# Altium schematic symbol library SCH - MCU - ATSAM - MICROCHIP ATSAML11E14A-UU WLCSP32.SchLib: 1 symbol
Pins are listed as number, name and electrical type; pins without a type are passive.

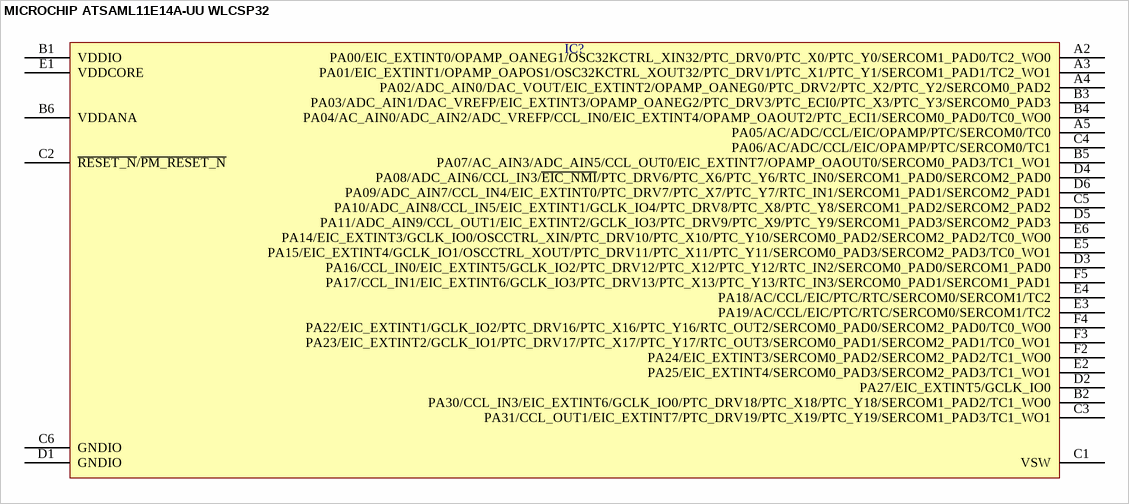
[diagram p0: symbol MICROCHIP ATSAML11E14A-UU WLCSP32]

## MICROCHIP ATSAML11E14A-UU WLCSP32
designator IC?  (value not drawn)
pins: A2 PA00/EIC_EXTINT0/OPAMP_OANEG1/OSC32KCTRL_XIN32/PTC_DRV0/PTC_X0/PTC_Y0/SERCOM1_PAD0/TC2_WO0, A3 PA01/EIC_EXTINT1/OPAMP_OAPOS1/OSC32KCTRL_XOUT32/PTC_DRV1/PTC_X1/PTC_Y1/SERCOM1_PAD1/TC2_WO1, A4 PA02/ADC_AIN0/DAC_VOUT/EIC_EXTINT2/OPAMP_OANEG0/PTC_DRV2/PTC_X2/PTC_Y2/SERCOM0_PAD2, A5 PA05/AC/ADC/CCL/EIC/OPAMP/PTC/SERCOM0/TC0, B1 VDDIO, B2 PA30/CCL_IN3/EIC_EXTINT6/GCLK_IO0/PTC_DRV18/PTC_X18/PTC_Y18/SERCOM1_PAD2/TC1_WO0, B3 PA03/ADC_AIN1/DAC_VREFP/EIC_EXTINT3/OPAMP_OANEG2/PTC_DRV3/PTC_ECI0/PTC_X3/PTC_Y3/SERCOM0_PAD3, B4 PA04/AC_AIN0/ADC_AIN2/ADC_VREFP/CCL_IN0/EIC_EXTINT4/OPAMP_OAOUT2/PTC_ECI1/SERCOM0_PAD0/TC0_WO0, B5 PA07/AC_AIN3/ADC_AIN5/CCL_OUT0/EIC_EXTINT7/OPAMP_OAOUT0/SERCOM0_PAD3/TC1_WO1, B6 VDDANA, C1 VSW, C2 ~{RESET_N}/~{PM_RESET_N}, C3 PA31/CCL_OUT1/EIC_EXTINT7/PTC_DRV19/PTC_X19/PTC_Y19/SERCOM1_PAD3/TC1_WO1, C4 PA06/AC/ADC/CCL/EIC/OPAMP/PTC/SERCOM0/TC1, C5 PA10/ADC_AIN8/CCL_IN5/EIC_EXTINT1/GCLK_IO4/PTC_DRV8/PTC_X8/PTC_Y8/SERCOM1_PAD2/SERCOM2_PAD2, C6 GNDIO, D1 GNDIO, D2 PA27/EIC_EXTINT5/GCLK_IO0, D3 PA16/CCL_IN0/EIC_EXTINT5/GCLK_IO2/PTC_DRV12/PTC_X12/PTC_Y12/RTC_IN2/SERCOM0_PAD0/SERCOM1_PAD0, D4 PA08/ADC_AIN6/CCL_IN3/~{EIC_NMI}/PTC_DRV6/PTC_X6/PTC_Y6/RTC_IN0/SERCOM1_PAD0/SERCOM2_PAD0, D5 PA11/ADC_AIN9/CCL_OUT1/EIC_EXTINT2/GCLK_IO3/PTC_DRV9/PTC_X9/PTC_Y9/SERCOM1_PAD3/SERCOM2_PAD3, D6 PA09/ADC_AIN7/CCL_IN4/EIC_EXTINT0/PTC_DRV7/PTC_X7/PTC_Y7/RTC_IN1/SERCOM1_PAD1/SERCOM2_PAD1, E1 VDDCORE, E2 PA25/EIC_EXTINT4/SERCOM0_PAD3/SERCOM2_PAD3/TC1_WO1, E3 PA19/AC/CCL/EIC/PTC/RTC/SERCOM0/SERCOM1/TC2, E4 PA18/AC/CCL/EIC/PTC/RTC/SERCOM0/SERCOM1/TC2, E5 PA15/EIC_EXTINT4/GCLK_IO1/OSCCTRL_XOUT/PTC_DRV11/PTC_X11/PTC_Y11/SERCOM0_PAD3/SERCOM2_PAD3/TC0_WO1, E6 PA14/EIC_EXTINT3/GCLK_IO0/OSCCTRL_XIN/PTC_DRV10/PTC_X10/PTC_Y10/SERCOM0_PAD2/SERCOM2_PAD2/TC0_WO0, F2 PA24/EIC_EXTINT3/SERCOM0_PAD2/SERCOM2_PAD2/TC1_WO0, F3 PA23/EIC_EXTINT2/GCLK_IO1/PTC_DRV17/PTC_X17/PTC_Y17/RTC_OUT3/SERCOM0_PAD1/SERCOM2_PAD1/TC0_WO1, F4 PA22/EIC_EXTINT1/GCLK_IO2/PTC_DRV16/PTC_X16/PTC_Y16/RTC_OUT2/SERCOM0_PAD0/SERCOM2_PAD0/TC0_WO0, F5 PA17/CCL_IN1/EIC_EXTINT6/GCLK_IO3/PTC_DRV13/PTC_X13/PTC_Y13/RTC_IN3/SERCOM0_PAD1/SERCOM1_PAD1